# EAGLE library part MS5607-02BA03 (library QFN32)
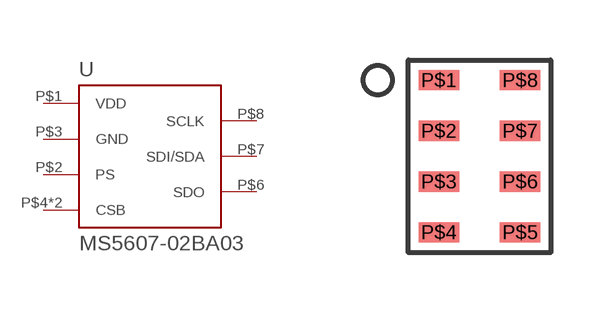
[diagram p3: symbol with the pads of QFN8; footprint QFN8]

Designator prefix -

## MS5607-02BA03  [QFN8]
P$1  VDD
P$2  PS
P$3  GND
P$4  CSB
P$5  CSB
P$6  SDO
P$7  SDI/SDA
P$8  SCLK

## Footprint QFN8 (pad centres in mm)
smd 1.016 x 0.508: P$1 -1.27,1.27; P$2 -1.27,0; P$3 -1.27,-1.27; P$4 -1.27,-2.54; P$5 0.762,-2.54; P$6 0.762,-1.27; P$7 0.762,0; P$8 0.762,1.27